# EAGLE library part IC-555-SOP-8 (library - Jins eagle lbr)
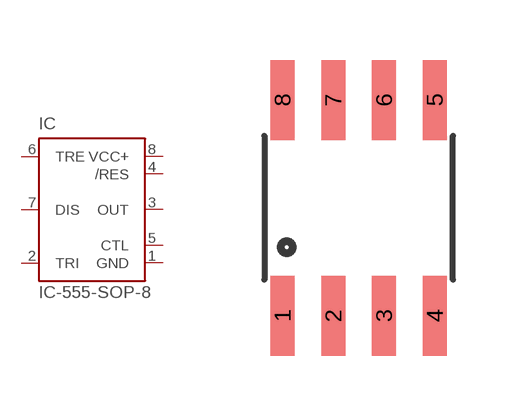
[diagram p0: symbol with the pads of SOP-08; footprint SOP-08]

Designator prefix IC

## IC-555-SOP-8  [SOP-08]
1  GND  pwr
2  TRI  in
3  OUT  out
4  /RES  in
5  CTL  in
6  TRE  in
7  DIS  in
8  VCC+  pwr

## Footprint SOP-08 (pad centres in mm)
smd 0.6 x 2: 1 -1.905,-2.7; 2 -0.635,-2.7; 3 0.635,-2.7; 4 1.905,-2.7; 5 1.905,2.7; 6 0.635,2.7; 7 -0.635,2.7; 8 -1.905,2.7